# Altium integrated library SparkFun-Batteries.Library.IntLib: 21 symbols
Pins are listed as number, name and electrical type; pins without a type are passive.

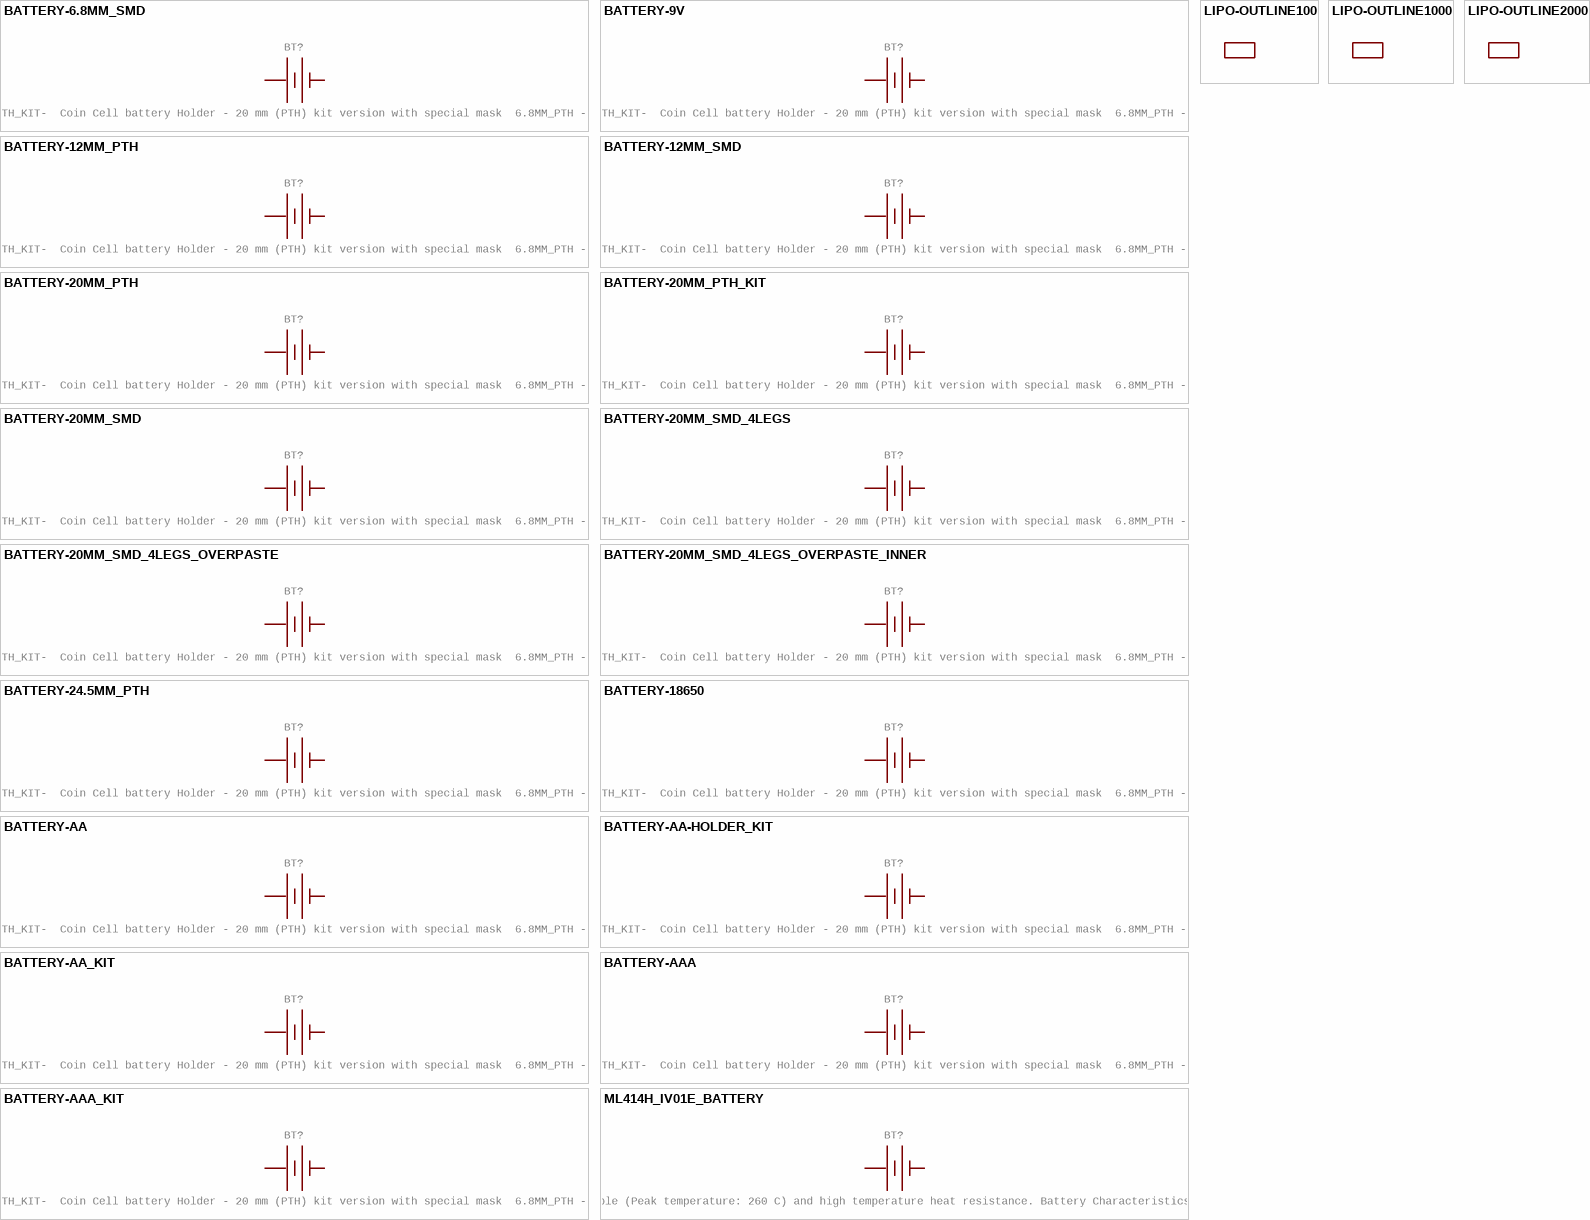
[diagram p0: symbols BATTERY-6.8MM_SMD to ML414H_IV01E_BATTERY]

## BATTERY-6.8MM_SMD
designator BT?, comment Battery - Single Cell    A variety of battery chemistries, sizes, and footprints.   Device List:  20MM_PTH -  Coin Cell Battery Holder - 20mm (PTH)  20MM_PTH_KIT-  Coin Cell battery Holder - 20 mm (PTH) kit version with special mask  6.8MM_PTH -  Coin Cell Battery Holder - 6.8MM(SMD)  12MM_SMD -  Coin Cell Battery Holder - 12mm (SMD)  12MM_PTH - Coin Cell Battery Holder - 12mm (PTH)  20MM_SMD -  20mm Coin Cell Battery Holder (SMD) (2 legs)  Used on the Big Time Watch Kit     20MM_SMD_4LEGS -  Coin Cell Battery Holder - 20mm (SMD)  20MM_SMD_4LEGS_OVERPASTE -  Coin Cell Battery Holder - 20mm (SMD) (Over-paste on the legs)  24.5MM_PTH -  Coin Cell Battery Holder - 24.5mm (PTH)  9V -  9V Battery Holder - PC Mount   Used on the SparkFun SparkPunk Sound Kit  and SparkFun SparkPunk Sequencer Kit      18650 -  Battery Holder - 18650 (PTH)  AA -  Battery Holder - 1xAA (PTH)  AAA -  Battery Holder - 1xAAA (PTH)  AA_KIT -  Battery Holder - 1xAA (PTH)  Special kit package - pads only have exposed copper on one side of the board.     AAA_KIT -  Battery Holder - 1xAAA (PTH)  Special kit package - pads only have exposed copper on one side of the board.
GateName_1: G$1; DeviceName: -6.8MM_SMD; PROD_ID: BATT-13734; SymbolName_1: BATTERY; LibraryName: SparkFun-Batteries; DeviceSetName: BATTERY; Package: BATTCON-6.8MM
footprint BATTCON-6.8MM
pins: + (power), - (power)

## BATTERY-9V
designator BT?, comment Battery - Single Cell    A variety of battery chemistries, sizes, and footprints.   Device List:  20MM_PTH -  Coin Cell Battery Holder - 20mm (PTH)  20MM_PTH_KIT-  Coin Cell battery Holder - 20 mm (PTH) kit version with special mask  6.8MM_PTH -  Coin Cell Battery Holder - 6.8MM(SMD)  12MM_SMD -  Coin Cell Battery Holder - 12mm (SMD)  12MM_PTH - Coin Cell Battery Holder - 12mm (PTH)  20MM_SMD -  20mm Coin Cell Battery Holder (SMD) (2 legs)  Used on the Big Time Watch Kit     20MM_SMD_4LEGS -  Coin Cell Battery Holder - 20mm (SMD)  20MM_SMD_4LEGS_OVERPASTE -  Coin Cell Battery Holder - 20mm (SMD) (Over-paste on the legs)  24.5MM_PTH -  Coin Cell Battery Holder - 24.5mm (PTH)  9V -  9V Battery Holder - PC Mount   Used on the SparkFun SparkPunk Sound Kit  and SparkFun SparkPunk Sequencer Kit      18650 -  Battery Holder - 18650 (PTH)  AA -  Battery Holder - 1xAA (PTH)  AAA -  Battery Holder - 1xAAA (PTH)  AA_KIT -  Battery Holder - 1xAA (PTH)  Special kit package - pads only have exposed copper on one side of the board.     AAA_KIT -  Battery Holder - 1xAAA (PTH)  Special kit package - pads only have exposed copper on one side of the board.
GateName_1: G$1; DeviceName: -9V; PROD_ID: BATT-10855; SymbolName_1: BATTERY; LibraryName: SparkFun-Batteries; DeviceSetName: BATTERY; Package: BATTCON_9V
footprint BATTCON_9V
pins: + (power), - (power)

## BATTERY-12MM_PTH
designator BT?, comment Battery - Single Cell    A variety of battery chemistries, sizes, and footprints.   Device List:  20MM_PTH -  Coin Cell Battery Holder - 20mm (PTH)  20MM_PTH_KIT-  Coin Cell battery Holder - 20 mm (PTH) kit version with special mask  6.8MM_PTH -  Coin Cell Battery Holder - 6.8MM(SMD)  12MM_SMD -  Coin Cell Battery Holder - 12mm (SMD)  12MM_PTH - Coin Cell Battery Holder - 12mm (PTH)  20MM_SMD -  20mm Coin Cell Battery Holder (SMD) (2 legs)  Used on the Big Time Watch Kit     20MM_SMD_4LEGS -  Coin Cell Battery Holder - 20mm (SMD)  20MM_SMD_4LEGS_OVERPASTE -  Coin Cell Battery Holder - 20mm (SMD) (Over-paste on the legs)  24.5MM_PTH -  Coin Cell Battery Holder - 24.5mm (PTH)  9V -  9V Battery Holder - PC Mount   Used on the SparkFun SparkPunk Sound Kit  and SparkFun SparkPunk Sequencer Kit      18650 -  Battery Holder - 18650 (PTH)  AA -  Battery Holder - 1xAA (PTH)  AAA -  Battery Holder - 1xAAA (PTH)  AA_KIT -  Battery Holder - 1xAA (PTH)  Special kit package - pads only have exposed copper on one side of the board.     AAA_KIT -  Battery Holder - 1xAAA (PTH)  Special kit package - pads only have exposed copper on one side of the board.
GateName_1: G$1; DeviceName: -12MM_PTH; PROD_ID: BATT-08315; SF_SKU: PRT-07948; SymbolName_1: BATTERY; LibraryName: SparkFun-Batteries; DeviceSetName: BATTERY; Package: BATTCON_12MM_PTH
footprint BATTCON_12MM_PTH
pins: GND - (power), VCC@1 + (power)

## BATTERY-12MM_SMD
designator BT?, comment Battery - Single Cell    A variety of battery chemistries, sizes, and footprints.   Device List:  20MM_PTH -  Coin Cell Battery Holder - 20mm (PTH)  20MM_PTH_KIT-  Coin Cell battery Holder - 20 mm (PTH) kit version with special mask  6.8MM_PTH -  Coin Cell Battery Holder - 6.8MM(SMD)  12MM_SMD -  Coin Cell Battery Holder - 12mm (SMD)  12MM_PTH - Coin Cell Battery Holder - 12mm (PTH)  20MM_SMD -  20mm Coin Cell Battery Holder (SMD) (2 legs)  Used on the Big Time Watch Kit     20MM_SMD_4LEGS -  Coin Cell Battery Holder - 20mm (SMD)  20MM_SMD_4LEGS_OVERPASTE -  Coin Cell Battery Holder - 20mm (SMD) (Over-paste on the legs)  24.5MM_PTH -  Coin Cell Battery Holder - 24.5mm (PTH)  9V -  9V Battery Holder - PC Mount   Used on the SparkFun SparkPunk Sound Kit  and SparkFun SparkPunk Sequencer Kit      18650 -  Battery Holder - 18650 (PTH)  AA -  Battery Holder - 1xAA (PTH)  AAA -  Battery Holder - 1xAAA (PTH)  AA_KIT -  Battery Holder - 1xAA (PTH)  Special kit package - pads only have exposed copper on one side of the board.     AAA_KIT -  Battery Holder - 1xAAA (PTH)  Special kit package - pads only have exposed copper on one side of the board.
GateName_1: G$1; DeviceName: -12MM_SMD; PROD_ID: BATT-08044; SF_SKU: PRT-10592; SymbolName_1: BATTERY; LibraryName: SparkFun-Batteries; DeviceSetName: BATTERY; Package: BATTCON_12MM
footprint BATTCON_12MM
pins: GND - (power), PWR@1 + (power)

## BATTERY-20MM_PTH
designator BT?, comment Battery - Single Cell    A variety of battery chemistries, sizes, and footprints.   Device List:  20MM_PTH -  Coin Cell Battery Holder - 20mm (PTH)  20MM_PTH_KIT-  Coin Cell battery Holder - 20 mm (PTH) kit version with special mask  6.8MM_PTH -  Coin Cell Battery Holder - 6.8MM(SMD)  12MM_SMD -  Coin Cell Battery Holder - 12mm (SMD)  12MM_PTH - Coin Cell Battery Holder - 12mm (PTH)  20MM_SMD -  20mm Coin Cell Battery Holder (SMD) (2 legs)  Used on the Big Time Watch Kit     20MM_SMD_4LEGS -  Coin Cell Battery Holder - 20mm (SMD)  20MM_SMD_4LEGS_OVERPASTE -  Coin Cell Battery Holder - 20mm (SMD) (Over-paste on the legs)  24.5MM_PTH -  Coin Cell Battery Holder - 24.5mm (PTH)  9V -  9V Battery Holder - PC Mount   Used on the SparkFun SparkPunk Sound Kit  and SparkFun SparkPunk Sequencer Kit      18650 -  Battery Holder - 18650 (PTH)  AA -  Battery Holder - 1xAA (PTH)  AAA -  Battery Holder - 1xAAA (PTH)  AA_KIT -  Battery Holder - 1xAA (PTH)  Special kit package - pads only have exposed copper on one side of the board.     AAA_KIT -  Battery Holder - 1xAAA (PTH)  Special kit package - pads only have exposed copper on one side of the board.
GateName_1: G$1; DeviceName: -20MM_PTH; PROD_ID: BATT-09031; SF_SKU: PRT-00783; SymbolName_1: BATTERY; LibraryName: SparkFun-Batteries; DeviceSetName: BATTERY; Package: BATTCOM_20MM_PTH
footprint BATTCOM_20MM_PTH
pins: 1 + (power), 2 - (power)

## BATTERY-20MM_PTH_KIT
designator BT?, comment Battery - Single Cell    A variety of battery chemistries, sizes, and footprints.   Device List:  20MM_PTH -  Coin Cell Battery Holder - 20mm (PTH)  20MM_PTH_KIT-  Coin Cell battery Holder - 20 mm (PTH) kit version with special mask  6.8MM_PTH -  Coin Cell Battery Holder - 6.8MM(SMD)  12MM_SMD -  Coin Cell Battery Holder - 12mm (SMD)  12MM_PTH - Coin Cell Battery Holder - 12mm (PTH)  20MM_SMD -  20mm Coin Cell Battery Holder (SMD) (2 legs)  Used on the Big Time Watch Kit     20MM_SMD_4LEGS -  Coin Cell Battery Holder - 20mm (SMD)  20MM_SMD_4LEGS_OVERPASTE -  Coin Cell Battery Holder - 20mm (SMD) (Over-paste on the legs)  24.5MM_PTH -  Coin Cell Battery Holder - 24.5mm (PTH)  9V -  9V Battery Holder - PC Mount   Used on the SparkFun SparkPunk Sound Kit  and SparkFun SparkPunk Sequencer Kit      18650 -  Battery Holder - 18650 (PTH)  AA -  Battery Holder - 1xAA (PTH)  AAA -  Battery Holder - 1xAAA (PTH)  AA_KIT -  Battery Holder - 1xAA (PTH)  Special kit package - pads only have exposed copper on one side of the board.     AAA_KIT -  Battery Holder - 1xAAA (PTH)  Special kit package - pads only have exposed copper on one side of the board.
GateName_1: G$1; DeviceName: -20MM_PTH_KIT; SymbolName_1: BATTERY; LibraryName: SparkFun-Batteries; DeviceSetName: BATTERY; Package: BATTCOM_20MM_PTH_KIT
footprint BATTCOM_20MM_PTH_KIT
pins: 1 + (power), 2 - (power)

## BATTERY-20MM_SMD
designator BT?, comment Battery - Single Cell    A variety of battery chemistries, sizes, and footprints.   Device List:  20MM_PTH -  Coin Cell Battery Holder - 20mm (PTH)  20MM_PTH_KIT-  Coin Cell battery Holder - 20 mm (PTH) kit version with special mask  6.8MM_PTH -  Coin Cell Battery Holder - 6.8MM(SMD)  12MM_SMD -  Coin Cell Battery Holder - 12mm (SMD)  12MM_PTH - Coin Cell Battery Holder - 12mm (PTH)  20MM_SMD -  20mm Coin Cell Battery Holder (SMD) (2 legs)  Used on the Big Time Watch Kit     20MM_SMD_4LEGS -  Coin Cell Battery Holder - 20mm (SMD)  20MM_SMD_4LEGS_OVERPASTE -  Coin Cell Battery Holder - 20mm (SMD) (Over-paste on the legs)  24.5MM_PTH -  Coin Cell Battery Holder - 24.5mm (PTH)  9V -  9V Battery Holder - PC Mount   Used on the SparkFun SparkPunk Sound Kit  and SparkFun SparkPunk Sequencer Kit      18650 -  Battery Holder - 18650 (PTH)  AA -  Battery Holder - 1xAA (PTH)  AAA -  Battery Holder - 1xAAA (PTH)  AA_KIT -  Battery Holder - 1xAA (PTH)  Special kit package - pads only have exposed copper on one side of the board.     AAA_KIT -  Battery Holder - 1xAAA (PTH)  Special kit package - pads only have exposed copper on one side of the board.
GateName_1: G$1; DeviceName: -20MM_SMD; PROD_ID: BATT-11519; SymbolName_1: BATTERY; LibraryName: SparkFun-Batteries; DeviceSetName: BATTERY; Package: BATTCON_20MM
footprint BATTCON_20MM
pins: 1 + (power), 2 - (power)

## BATTERY-20MM_SMD_4LEGS
designator BT?, comment Battery - Single Cell    A variety of battery chemistries, sizes, and footprints.   Device List:  20MM_PTH -  Coin Cell Battery Holder - 20mm (PTH)  20MM_PTH_KIT-  Coin Cell battery Holder - 20 mm (PTH) kit version with special mask  6.8MM_PTH -  Coin Cell Battery Holder - 6.8MM(SMD)  12MM_SMD -  Coin Cell Battery Holder - 12mm (SMD)  12MM_PTH - Coin Cell Battery Holder - 12mm (PTH)  20MM_SMD -  20mm Coin Cell Battery Holder (SMD) (2 legs)  Used on the Big Time Watch Kit     20MM_SMD_4LEGS -  Coin Cell Battery Holder - 20mm (SMD)  20MM_SMD_4LEGS_OVERPASTE -  Coin Cell Battery Holder - 20mm (SMD) (Over-paste on the legs)  24.5MM_PTH -  Coin Cell Battery Holder - 24.5mm (PTH)  9V -  9V Battery Holder - PC Mount   Used on the SparkFun SparkPunk Sound Kit  and SparkFun SparkPunk Sequencer Kit      18650 -  Battery Holder - 18650 (PTH)  AA -  Battery Holder - 1xAA (PTH)  AAA -  Battery Holder - 1xAAA (PTH)  AA_KIT -  Battery Holder - 1xAA (PTH)  Special kit package - pads only have exposed copper on one side of the board.     AAA_KIT -  Battery Holder - 1xAAA (PTH)  Special kit package - pads only have exposed copper on one side of the board.
GateName_1: G$1; DeviceName: -20MM_SMD_4LEGS; PROD_ID: BATT-10373; SF_SKU: PRT-11892; SymbolName_1: BATTERY; LibraryName: SparkFun-Batteries; DeviceSetName: BATTERY; Package: BATTCON_20MM_4LEGS
footprint BATTCON_20MM_4LEGS
pins: NEGATIVE - (power), POSITIVE@1-4 + (power)

## BATTERY-20MM_SMD_4LEGS_OVERPASTE
designator BT?, comment Battery - Single Cell    A variety of battery chemistries, sizes, and footprints.   Device List:  20MM_PTH -  Coin Cell Battery Holder - 20mm (PTH)  20MM_PTH_KIT-  Coin Cell battery Holder - 20 mm (PTH) kit version with special mask  6.8MM_PTH -  Coin Cell Battery Holder - 6.8MM(SMD)  12MM_SMD -  Coin Cell Battery Holder - 12mm (SMD)  12MM_PTH - Coin Cell Battery Holder - 12mm (PTH)  20MM_SMD -  20mm Coin Cell Battery Holder (SMD) (2 legs)  Used on the Big Time Watch Kit     20MM_SMD_4LEGS -  Coin Cell Battery Holder - 20mm (SMD)  20MM_SMD_4LEGS_OVERPASTE -  Coin Cell Battery Holder - 20mm (SMD) (Over-paste on the legs)  24.5MM_PTH -  Coin Cell Battery Holder - 24.5mm (PTH)  9V -  9V Battery Holder - PC Mount   Used on the SparkFun SparkPunk Sound Kit  and SparkFun SparkPunk Sequencer Kit      18650 -  Battery Holder - 18650 (PTH)  AA -  Battery Holder - 1xAA (PTH)  AAA -  Battery Holder - 1xAAA (PTH)  AA_KIT -  Battery Holder - 1xAA (PTH)  Special kit package - pads only have exposed copper on one side of the board.     AAA_KIT -  Battery Holder - 1xAAA (PTH)  Special kit package - pads only have exposed copper on one side of the board.
GateName_1: G$1; DeviceName: -20MM_SMD_4LEGS_OVERPASTE; PROD_ID: PRT-11892; SF_SKU: BATT-10373; SymbolName_1: BATTERY; LibraryName: SparkFun-Batteries; DeviceSetName: BATTERY; Package: BATTCON_20MM_4LEGS_OVERPASTE
footprint BATTCON_20MM_4LEGS_OVERPASTE
pins: 1 + (power), 2 - (power)

## BATTERY-20MM_SMD_4LEGS_OVERPASTE_INNER
designator BT?, comment Battery - Single Cell    A variety of battery chemistries, sizes, and footprints.   Device List:  20MM_PTH -  Coin Cell Battery Holder - 20mm (PTH)  20MM_PTH_KIT-  Coin Cell battery Holder - 20 mm (PTH) kit version with special mask  6.8MM_PTH -  Coin Cell Battery Holder - 6.8MM(SMD)  12MM_SMD -  Coin Cell Battery Holder - 12mm (SMD)  12MM_PTH - Coin Cell Battery Holder - 12mm (PTH)  20MM_SMD -  20mm Coin Cell Battery Holder (SMD) (2 legs)  Used on the Big Time Watch Kit     20MM_SMD_4LEGS -  Coin Cell Battery Holder - 20mm (SMD)  20MM_SMD_4LEGS_OVERPASTE -  Coin Cell Battery Holder - 20mm (SMD) (Over-paste on the legs)  24.5MM_PTH -  Coin Cell Battery Holder - 24.5mm (PTH)  9V -  9V Battery Holder - PC Mount   Used on the SparkFun SparkPunk Sound Kit  and SparkFun SparkPunk Sequencer Kit      18650 -  Battery Holder - 18650 (PTH)  AA -  Battery Holder - 1xAA (PTH)  AAA -  Battery Holder - 1xAAA (PTH)  AA_KIT -  Battery Holder - 1xAA (PTH)  Special kit package - pads only have exposed copper on one side of the board.     AAA_KIT -  Battery Holder - 1xAAA (PTH)  Special kit package - pads only have exposed copper on one side of the board.
GateName_1: G$1; DeviceName: -20MM_SMD_4LEGS_OVERPASTE_INNER; SymbolName_1: BATTERY; LibraryName: SparkFun-Batteries; DeviceSetName: BATTERY; Package: BATTCON_20MM_4LEGS_OVERPASTE_INNER
footprint BATTCON_20MM_4LEGS_OVERPASTE_INNER
pins: 1 + (power), 2 - (power)

## BATTERY-24.5MM_PTH
designator BT?, comment Battery - Single Cell    A variety of battery chemistries, sizes, and footprints.   Device List:  20MM_PTH -  Coin Cell Battery Holder - 20mm (PTH)  20MM_PTH_KIT-  Coin Cell battery Holder - 20 mm (PTH) kit version with special mask  6.8MM_PTH -  Coin Cell Battery Holder - 6.8MM(SMD)  12MM_SMD -  Coin Cell Battery Holder - 12mm (SMD)  12MM_PTH - Coin Cell Battery Holder - 12mm (PTH)  20MM_SMD -  20mm Coin Cell Battery Holder (SMD) (2 legs)  Used on the Big Time Watch Kit     20MM_SMD_4LEGS -  Coin Cell Battery Holder - 20mm (SMD)  20MM_SMD_4LEGS_OVERPASTE -  Coin Cell Battery Holder - 20mm (SMD) (Over-paste on the legs)  24.5MM_PTH -  Coin Cell Battery Holder - 24.5mm (PTH)  9V -  9V Battery Holder - PC Mount   Used on the SparkFun SparkPunk Sound Kit  and SparkFun SparkPunk Sequencer Kit      18650 -  Battery Holder - 18650 (PTH)  AA -  Battery Holder - 1xAA (PTH)  AAA -  Battery Holder - 1xAAA (PTH)  AA_KIT -  Battery Holder - 1xAA (PTH)  Special kit package - pads only have exposed copper on one side of the board.     AAA_KIT -  Battery Holder - 1xAAA (PTH)  Special kit package - pads only have exposed copper on one side of the board.
GateName_1: G$1; DeviceName: -24.5MM_PTH; SF_SKU: PRT-08863; SymbolName_1: BATTERY; LibraryName: SparkFun-Batteries; DeviceSetName: BATTERY; Package: BATTCON_24.5MM_PTH
footprint BATTCON_24.5MM_PTH
pins: 2 - (power), 3 + (power)

## BATTERY-18650
designator BT?, comment Battery - Single Cell    A variety of battery chemistries, sizes, and footprints.   Device List:  20MM_PTH -  Coin Cell Battery Holder - 20mm (PTH)  20MM_PTH_KIT-  Coin Cell battery Holder - 20 mm (PTH) kit version with special mask  6.8MM_PTH -  Coin Cell Battery Holder - 6.8MM(SMD)  12MM_SMD -  Coin Cell Battery Holder - 12mm (SMD)  12MM_PTH - Coin Cell Battery Holder - 12mm (PTH)  20MM_SMD -  20mm Coin Cell Battery Holder (SMD) (2 legs)  Used on the Big Time Watch Kit     20MM_SMD_4LEGS -  Coin Cell Battery Holder - 20mm (SMD)  20MM_SMD_4LEGS_OVERPASTE -  Coin Cell Battery Holder - 20mm (SMD) (Over-paste on the legs)  24.5MM_PTH -  Coin Cell Battery Holder - 24.5mm (PTH)  9V -  9V Battery Holder - PC Mount   Used on the SparkFun SparkPunk Sound Kit  and SparkFun SparkPunk Sequencer Kit      18650 -  Battery Holder - 18650 (PTH)  AA -  Battery Holder - 1xAA (PTH)  AAA -  Battery Holder - 1xAAA (PTH)  AA_KIT -  Battery Holder - 1xAA (PTH)  Special kit package - pads only have exposed copper on one side of the board.     AAA_KIT -  Battery Holder - 1xAAA (PTH)  Special kit package - pads only have exposed copper on one side of the board.
GateName_1: G$1; DeviceName: -18650; PROD_ID: BATT-12327; SF_SKU: PRT-13113; SymbolName_1: BATTERY; LibraryName: SparkFun-Batteries; DeviceSetName: BATTERY; Package: BATTERY_18650-HOLDER
footprint BATTERY_18650-HOLDER
pins: GND@1 - (power), PWR@1 + (power)

## BATTERY-AA
designator BT?, comment Battery - Single Cell    A variety of battery chemistries, sizes, and footprints.   Device List:  20MM_PTH -  Coin Cell Battery Holder - 20mm (PTH)  20MM_PTH_KIT-  Coin Cell battery Holder - 20 mm (PTH) kit version with special mask  6.8MM_PTH -  Coin Cell Battery Holder - 6.8MM(SMD)  12MM_SMD -  Coin Cell Battery Holder - 12mm (SMD)  12MM_PTH - Coin Cell Battery Holder - 12mm (PTH)  20MM_SMD -  20mm Coin Cell Battery Holder (SMD) (2 legs)  Used on the Big Time Watch Kit     20MM_SMD_4LEGS -  Coin Cell Battery Holder - 20mm (SMD)  20MM_SMD_4LEGS_OVERPASTE -  Coin Cell Battery Holder - 20mm (SMD) (Over-paste on the legs)  24.5MM_PTH -  Coin Cell Battery Holder - 24.5mm (PTH)  9V -  9V Battery Holder - PC Mount   Used on the SparkFun SparkPunk Sound Kit  and SparkFun SparkPunk Sequencer Kit      18650 -  Battery Holder - 18650 (PTH)  AA -  Battery Holder - 1xAA (PTH)  AAA -  Battery Holder - 1xAAA (PTH)  AA_KIT -  Battery Holder - 1xAA (PTH)  Special kit package - pads only have exposed copper on one side of the board.     AAA_KIT -  Battery Holder - 1xAAA (PTH)  Special kit package - pads only have exposed copper on one side of the board.
GateName_1: G$1; DeviceName: -AA; PROD_ID: BATT-08316; SF_SKU: PRT-07949; SymbolName_1: BATTERY; LibraryName: SparkFun-Batteries; DeviceSetName: BATTERY; Package: BATTERY-AA
footprint BATTERY-AA
pins: GND@1 - (power), PWR@1 + (power)

## BATTERY-AA-HOLDER_KIT
designator BT?, comment Battery - Single Cell    A variety of battery chemistries, sizes, and footprints.   Device List:  20MM_PTH -  Coin Cell Battery Holder - 20mm (PTH)  20MM_PTH_KIT-  Coin Cell battery Holder - 20 mm (PTH) kit version with special mask  6.8MM_PTH -  Coin Cell Battery Holder - 6.8MM(SMD)  12MM_SMD -  Coin Cell Battery Holder - 12mm (SMD)  12MM_PTH - Coin Cell Battery Holder - 12mm (PTH)  20MM_SMD -  20mm Coin Cell Battery Holder (SMD) (2 legs)  Used on the Big Time Watch Kit     20MM_SMD_4LEGS -  Coin Cell Battery Holder - 20mm (SMD)  20MM_SMD_4LEGS_OVERPASTE -  Coin Cell Battery Holder - 20mm (SMD) (Over-paste on the legs)  24.5MM_PTH -  Coin Cell Battery Holder - 24.5mm (PTH)  9V -  9V Battery Holder - PC Mount   Used on the SparkFun SparkPunk Sound Kit  and SparkFun SparkPunk Sequencer Kit      18650 -  Battery Holder - 18650 (PTH)  AA -  Battery Holder - 1xAA (PTH)  AAA -  Battery Holder - 1xAAA (PTH)  AA_KIT -  Battery Holder - 1xAA (PTH)  Special kit package - pads only have exposed copper on one side of the board.     AAA_KIT -  Battery Holder - 1xAAA (PTH)  Special kit package - pads only have exposed copper on one side of the board.
GateName_1: G$1; DeviceName: -AA-HOLDER_KIT; SymbolName_1: BATTERY; LibraryName: SparkFun-Batteries; DeviceSetName: BATTERY; Package: BATTERY-AA-HOLDER-KIT
footprint BATTERY-AA-HOLDER-KIT
pins: N - (power), P + (power)

## BATTERY-AA_KIT
designator BT?, comment Battery - Single Cell    A variety of battery chemistries, sizes, and footprints.   Device List:  20MM_PTH -  Coin Cell Battery Holder - 20mm (PTH)  20MM_PTH_KIT-  Coin Cell battery Holder - 20 mm (PTH) kit version with special mask  6.8MM_PTH -  Coin Cell Battery Holder - 6.8MM(SMD)  12MM_SMD -  Coin Cell Battery Holder - 12mm (SMD)  12MM_PTH - Coin Cell Battery Holder - 12mm (PTH)  20MM_SMD -  20mm Coin Cell Battery Holder (SMD) (2 legs)  Used on the Big Time Watch Kit     20MM_SMD_4LEGS -  Coin Cell Battery Holder - 20mm (SMD)  20MM_SMD_4LEGS_OVERPASTE -  Coin Cell Battery Holder - 20mm (SMD) (Over-paste on the legs)  24.5MM_PTH -  Coin Cell Battery Holder - 24.5mm (PTH)  9V -  9V Battery Holder - PC Mount   Used on the SparkFun SparkPunk Sound Kit  and SparkFun SparkPunk Sequencer Kit      18650 -  Battery Holder - 18650 (PTH)  AA -  Battery Holder - 1xAA (PTH)  AAA -  Battery Holder - 1xAAA (PTH)  AA_KIT -  Battery Holder - 1xAA (PTH)  Special kit package - pads only have exposed copper on one side of the board.     AAA_KIT -  Battery Holder - 1xAAA (PTH)  Special kit package - pads only have exposed copper on one side of the board.
GateName_1: G$1; DeviceName: -AA_KIT; PROD_ID: BATT-08316; SF_SKU: PRT-07949; SymbolName_1: BATTERY; LibraryName: SparkFun-Batteries; DeviceSetName: BATTERY; Package: BATTERY-AA-KIT
footprint BATTERY-AA-KIT
pins: GND@1 - (power), PWR@1 + (power)

## BATTERY-AAA
designator BT?, comment Battery - Single Cell    A variety of battery chemistries, sizes, and footprints.   Device List:  20MM_PTH -  Coin Cell Battery Holder - 20mm (PTH)  20MM_PTH_KIT-  Coin Cell battery Holder - 20 mm (PTH) kit version with special mask  6.8MM_PTH -  Coin Cell Battery Holder - 6.8MM(SMD)  12MM_SMD -  Coin Cell Battery Holder - 12mm (SMD)  12MM_PTH - Coin Cell Battery Holder - 12mm (PTH)  20MM_SMD -  20mm Coin Cell Battery Holder (SMD) (2 legs)  Used on the Big Time Watch Kit     20MM_SMD_4LEGS -  Coin Cell Battery Holder - 20mm (SMD)  20MM_SMD_4LEGS_OVERPASTE -  Coin Cell Battery Holder - 20mm (SMD) (Over-paste on the legs)  24.5MM_PTH -  Coin Cell Battery Holder - 24.5mm (PTH)  9V -  9V Battery Holder - PC Mount   Used on the SparkFun SparkPunk Sound Kit  and SparkFun SparkPunk Sequencer Kit      18650 -  Battery Holder - 18650 (PTH)  AA -  Battery Holder - 1xAA (PTH)  AAA -  Battery Holder - 1xAAA (PTH)  AA_KIT -  Battery Holder - 1xAA (PTH)  Special kit package - pads only have exposed copper on one side of the board.     AAA_KIT -  Battery Holder - 1xAAA (PTH)  Special kit package - pads only have exposed copper on one side of the board.
GateName_1: G$1; DeviceName: -AAA; PROD_ID: BATT-08571; SF_SKU: PRT-12718; SymbolName_1: BATTERY; LibraryName: SparkFun-Batteries; DeviceSetName: BATTERY; Package: BATTERY-AAA
footprint BATTERY-AAA
pins: GND@1 - (power), PWR@1 + (power)

## BATTERY-AAA_KIT
designator BT?, comment Battery - Single Cell    A variety of battery chemistries, sizes, and footprints.   Device List:  20MM_PTH -  Coin Cell Battery Holder - 20mm (PTH)  20MM_PTH_KIT-  Coin Cell battery Holder - 20 mm (PTH) kit version with special mask  6.8MM_PTH -  Coin Cell Battery Holder - 6.8MM(SMD)  12MM_SMD -  Coin Cell Battery Holder - 12mm (SMD)  12MM_PTH - Coin Cell Battery Holder - 12mm (PTH)  20MM_SMD -  20mm Coin Cell Battery Holder (SMD) (2 legs)  Used on the Big Time Watch Kit     20MM_SMD_4LEGS -  Coin Cell Battery Holder - 20mm (SMD)  20MM_SMD_4LEGS_OVERPASTE -  Coin Cell Battery Holder - 20mm (SMD) (Over-paste on the legs)  24.5MM_PTH -  Coin Cell Battery Holder - 24.5mm (PTH)  9V -  9V Battery Holder - PC Mount   Used on the SparkFun SparkPunk Sound Kit  and SparkFun SparkPunk Sequencer Kit      18650 -  Battery Holder - 18650 (PTH)  AA -  Battery Holder - 1xAA (PTH)  AAA -  Battery Holder - 1xAAA (PTH)  AA_KIT -  Battery Holder - 1xAA (PTH)  Special kit package - pads only have exposed copper on one side of the board.     AAA_KIT -  Battery Holder - 1xAAA (PTH)  Special kit package - pads only have exposed copper on one side of the board.
GateName_1: G$1; DeviceName: -AAA_KIT; PROD_ID: BATT-08571; SF_SKU: PRT-12718; SymbolName_1: BATTERY; LibraryName: SparkFun-Batteries; DeviceSetName: BATTERY; Package: BATTERY-AAA-KIT
footprint BATTERY-AAA-KIT
pins: GND@1 - (power), PWR@1 + (power)

## LIPO-OUTLINE100
designator BT?, comment LiPo Battery Outlines    Outlines for common LiPo batteries sold by SparkFun.   (Note: no terminals or connection points, just the dimensions.) SparkFun Products  Polymer Lithium Ion Battery - 110mAh (PRT-13853)  Polymer Lithium Ion Battery - 1000mAh (PRT-13813)  Polymer Lithium Ion Battery - 2000mAh (PRT-08483)  (value not drawn)
GateName_1: G$1; SymbolName_1: LIPO-OUTLINE; DeviceName: 100; PROD_ID: BATT-13274; LibraryName: SparkFun-Batteries; DeviceSetName: LIPO-OUTLINE; Package: LIPO-110; SF_SKU: PRT-13853
footprint LIPO-110

## LIPO-OUTLINE1000
designator BT?, comment LiPo Battery Outlines    Outlines for common LiPo batteries sold by SparkFun.   (Note: no terminals or connection points, just the dimensions.) SparkFun Products  Polymer Lithium Ion Battery - 110mAh (PRT-13853)  Polymer Lithium Ion Battery - 1000mAh (PRT-13813)  Polymer Lithium Ion Battery - 2000mAh (PRT-08483)  (value not drawn)
GateName_1: G$1; SymbolName_1: LIPO-OUTLINE; DeviceName: 1000; PROD_ID: BATT-13243; LibraryName: SparkFun-Batteries; DeviceSetName: LIPO-OUTLINE; Package: LIPO-1000; SF_SKU: PRT-13813
footprint LIPO-1000

## LIPO-OUTLINE2000
designator BT?, comment LiPo Battery Outlines    Outlines for common LiPo batteries sold by SparkFun.   (Note: no terminals or connection points, just the dimensions.) SparkFun Products  Polymer Lithium Ion Battery - 110mAh (PRT-13853)  Polymer Lithium Ion Battery - 1000mAh (PRT-13813)  Polymer Lithium Ion Battery - 2000mAh (PRT-08483)  (value not drawn)
GateName_1: G$1; SymbolName_1: LIPO-OUTLINE; DeviceName: 2000; PROD_ID: BATT-08764; LibraryName: SparkFun-Batteries; DeviceSetName: LIPO-OUTLINE; Package: LIPO-2000; SF_SKU: PRT-08483
footprint LIPO-2000

## ML414H_IV01E_BATTERY
designator BT?, comment SEIKO ML414H-IV01E Reflowable Lithium Battery    ML414H is a rechargeable, coin type battery with features such as Pb-free reflowable (Peak temperature: 260 C) and high temperature heat resistance. Battery Characteristics:  3.1V max voltage  Voff is 2V  1mAH  3k series resistor with battery  72 hour charge time from 2.0-3.1V  2.3-2.8V initial charge
GateName_1: G$1; DeviceSetName: ML414H_IV01E_BATTERY; PROD_ID: BATT-14267; SymbolName_1: BATTERY; LibraryName: SparkFun-Batteries; Package: ML414H_IV01E
footprint ML414H_IV01E
pins: + (power), - (power)